# Altium footprint library SamacSys.PcbLib: 39 footprints (part 3 of 3)
Each footprint in its own frame and in the unit in brackets; x right, y up, seen from the top. Pads: shape width x height; smd on the part's side, far side on the other; paste and mask are expansions set on the pad; w line width, h text height; cw(c..) or ccw(c..) is an arc to the next point about the centre after c.
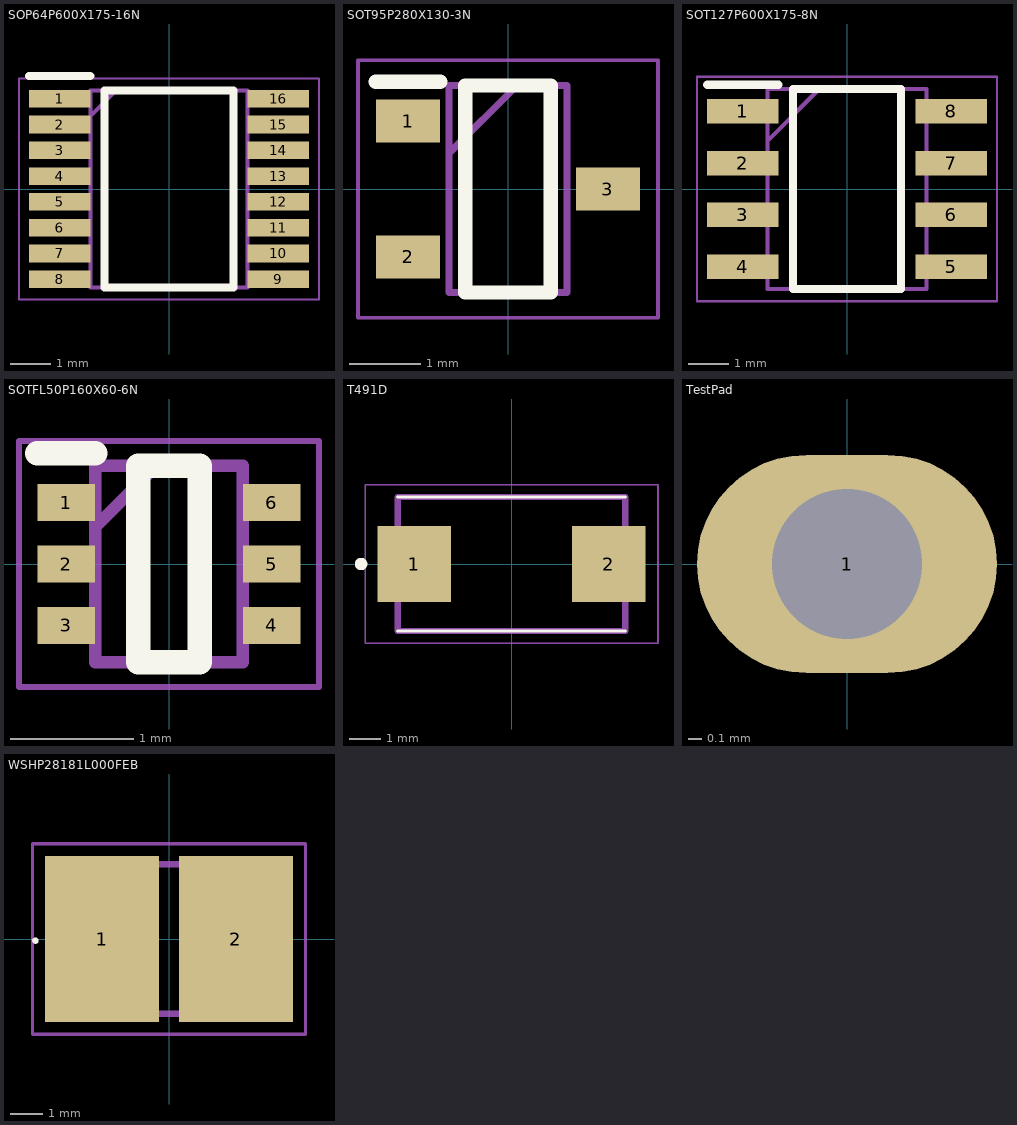
[diagram p2: the footprints below, top view; thin cyan lines are the x and y axes]

## SOP64P600X175-16N [mm]
pads (16):
  rect 1.52x0.44 smd: 1(-2.715,2.24) 2(-2.715,1.6) 3(-2.715,0.96) 4(-2.715,0.32) 5(-2.715,-0.32) 6(-2.715,-0.96) 7(-2.715,-1.6) 8(-2.715,-2.24) 9(2.715,-2.24) 10(2.715,-1.6) 11(2.715,-0.96) 12(2.715,-0.32) 13(2.715,0.32) 14(2.715,0.96) 15(2.715,1.6) 16(2.715,2.24)
Top Overlay:
  lines w0.2: -3.475,2.81 -1.955,2.81 ; -1.605,-2.45 1.605,-2.45 1.605,2.45 -1.605,2.45 -1.605,-2.45
Mechanical 13:
  lines w0.1: -1.955,1.81 -1.315,2.45 ; -1.955,-2.45 1.955,-2.45 1.955,2.45 -1.955,2.45 -1.955,-2.45
Mechanical 15:
  lines w0.05: -3.725,-2.75 3.725,-2.75 3.725,2.75 -3.725,2.75 -3.725,-2.75
3D body "ADUM1440ARQZ.stp": height 1.75, standoff 0, extent -2.997,-2.45 2.997,2.45

## SOT95P280X130-3N [mm]
pads (3):
  rect 0.9x0.6 smd: 1(-1.4,0.95) 2(-1.4,-0.95) 3(1.4,0)
Top Overlay:
  lines w0.2: -1.85,1.5 -0.95,1.5 ; -0.6,-1.45 -0.6,1.45 0.6,1.45 0.6,-1.45 -0.6,-1.45
Mechanical 13:
  lines w0.1: -0.825,0.5 0.125,1.45 ; -0.825,-1.45 -0.825,1.45 0.825,1.45 0.825,-1.45 -0.825,-1.45
Mechanical 15:
  lines w0.05: -2.1,-1.8 -2.1,1.8 2.1,1.8 2.1,-1.8 -2.1,-1.8
3D body "XC6206P332MR.stp": height 1.3, standoff 0, extent -1.4,-1.45 1.4,1.45

## SOT127P600X175-8N [mm]
pads (8):
  rect 1.75x0.6 smd: 1(-2.55,1.905) 2(-2.55,0.635) 3(-2.55,-0.635) 4(-2.55,-1.905) 5(2.55,-1.905) 6(2.55,-0.635) 7(2.55,0.635) 8(2.55,1.905)
Top Overlay:
  lines w0.2: -3.425,2.555 -1.675,2.555 ; -1.325,-2.45 -1.325,2.45 1.325,2.45 1.325,-2.45 -1.325,-2.45
Mechanical 13:
  lines w0.1: -1.95,1.18 -0.68,2.45 ; -1.95,-2.45 -1.95,2.45 1.95,2.45 1.95,-2.45 -1.95,-2.45
Mechanical 15:
  lines w0.05: -3.675,-2.75 -3.675,2.75 3.675,2.75 3.675,-2.75 -3.675,-2.75
3D body "Si8602AB-B-IS.stp": height 1.75, standoff 0, extent -3,-2.45 3,2.45

## SOTFL50P160X60-6N [mm]
pads (6):
  rect 0.47x0.3 smd: 1(-0.835,0.5) 2(-0.835,0) 3(-0.835,-0.5) 4(0.835,-0.5) 5(0.835,0) 6(0.835,0.5)
Top Overlay:
  lines w0.2: -1.07,0.9 -0.6,0.9 ; -0.25,-0.8 -0.25,0.8 0.25,0.8 0.25,-0.8 -0.25,-0.8
Mechanical 13:
  lines w0.1: -0.6,0.3 -0.1,0.8 ; -0.6,-0.8 -0.6,0.8 0.6,0.8 0.6,-0.8 -0.6,-0.8
Mechanical 15:
  lines w0.05: -1.22,-1 -1.22,1 1.22,1 1.22,-1 -1.22,-1
3D body "SI1029X-T1-GE3.stp": height 0.6, standoff 0, extent -0.8,-0.8 0.8,0.8

## T491D [mm]
pads (2):
  rect 2.37x2.43 smd: 1(-3.12,0) 2(3.12,0)
Top Overlay:
  circle w0.2: c-4.826,0 r0.1
  lines w0.1: -3.65,-2.15 3.65,-2.15 ; -3.65,2.15 3.65,2.15
Mechanical 13:
  lines w0.2: -3.65,-2.15 -3.65,2.15 3.65,2.15 3.65,-2.15 -3.65,-2.15
Mechanical 15:
  lines w0.05: -4.699,-2.54 -4.699,2.54 4.699,2.54 4.699,-2.54 -4.699,-2.54
3D body "T491D106K050AT.stp": height 3.11, standoff 0, extent -3.8,-2.3 3.8,2.3

## TestPad [mm]
pads (1):
  oval 2.2x1.6 hole 1.1: 1(0,0)

## WSHP28181L000FEB [mm]
pads (2):
  rect 3.5x5.1 smd: 1(-2.055,0) 2(2.055,0)
Top Overlay:
  lines w0.1: -4.1,-0.1 ccw(c-4.1,-0.05) -4.1,0 ccw(c-4.1,-0.05) -4.1,-0.1
Mechanical 13:
  lines w0.2: -3.55,-2.3 3.55,-2.3 3.55,2.3 -3.55,2.3 -3.55,-2.3
Mechanical 15:
  lines w0.1: -4.191,-2.921 4.191,-2.921 4.191,2.921 -4.191,2.921 -4.191,-2.921
3D body "WSHP2818R0100FEA.stp": height 1.5, standoff 0, extent -3.718,-2.3 3.378,2.3